# Altium integrated library ESH2C_R5G.IntLib: 1 symbol
Pins are listed as number, name and electrical type; pins without a type are passive.

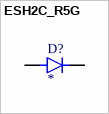
[diagram p0: symbol ESH2C_R5G]

## ESH2C_R5G
designator D?
DIODE GEN PURP 150V 2A DO214AA; MF: Taiwan Semiconductor Corporation; MP: ESH2C R5G; SnapEDA_Link: https://www.snapeda.com/parts/ESH2C%20R5G/Taiwan+Semiconductor/view-part/?ref=snap; Package: None; Value: *; Check_prices: https://www.snapeda.com/parts/ESH2C%20R5G/Taiwan+Semiconductor/view-part/?ref=eda
footprint DIOM4336X265N
pins: A, C K